# Altium integrated library ESDA14V2-2BF3.IntLib: 2 symbols
Pins are listed as number, name and electrical type; pins without a type are passive.

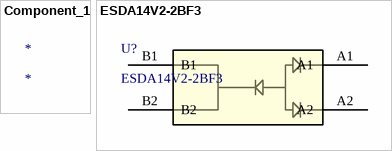
[diagram p0: symbols Component_1 to ESDA14V2-2BF3]

## Component_1
designator *

## ESDA14V2-2BF3
designator U?
Dual bidirectional Transil array for ESD protection; Manufacturer_Name: STMicroelectronics; Copyright: Copyright (C) 2025 Ultra Librarian. All rights reserved.; Manufacturer_Part_Number: ESDA14V2-2BF3; Datasheet: https://www.st.com/resource/en/datasheet/esda14v2-2bf3.pdf; RefDes: RefDes; Type: Type
footprint BGA_4V2-2BF3_STM
pins: A1, A2, B1, B2